# Altium footprint library Triac.PcbLib: 5 footprints
Each footprint in its own frame and in the unit in brackets; x right, y up, seen from the top. Pads: shape width x height; smd on the part's side, far side on the other; paste and mask are expansions set on the pad; w line width, h text height; cw(c..) or ccw(c..) is an arc to the next point about the centre after c.
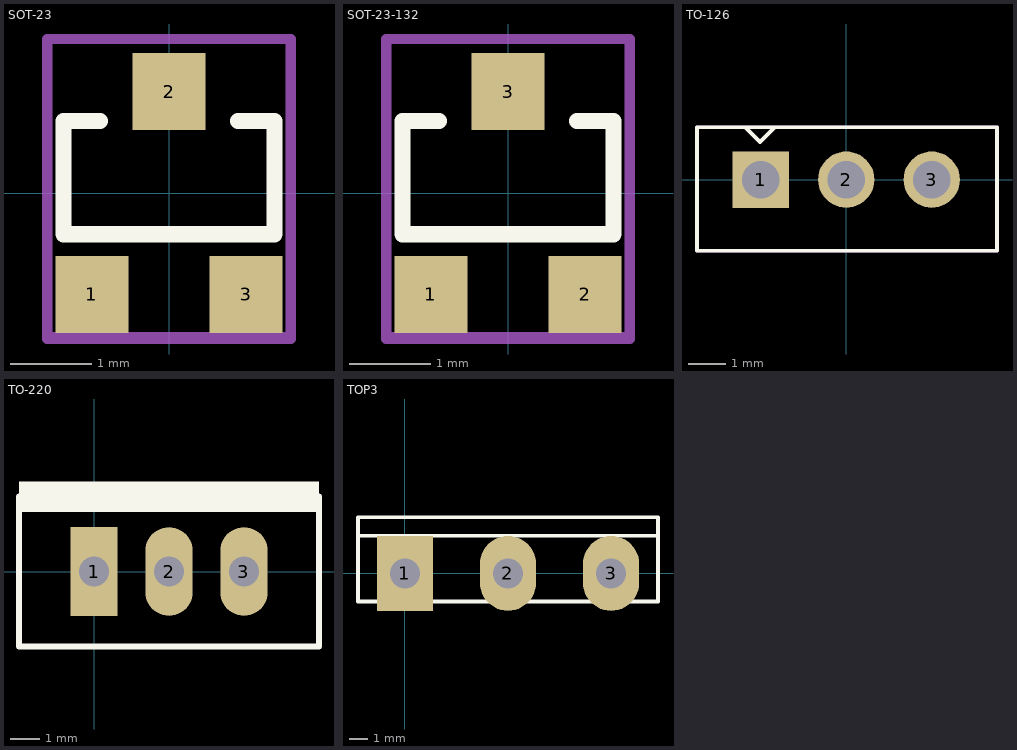
[diagram p0: the footprints below, top view; thin cyan lines are the x and y axes]

## SOT-23 [mm]
height 1.1
pads (3):
  rect 0.9x0.95 smd: 1(-0.95,-1.25) 2(0,1.25) 3(0.95,-1.25)
Top Overlay:
  lines w0.2: -0.85,0.889 -1.3,0.889 -1.3,-0.508 1.3,-0.508 1.3,0.889 0.85,0.889
Mechanical 13:
  lines w0.127: -1.5,-1.778 -1.5,1.9 1.5,1.9 1.5,-1.778 -1.5,-1.778
  text ".Designator" at 0.2,-1.6 h1
Mechanical 15:
  lines w0.127: -1.5,-1.8 -1.5,1.9 1.5,1.9 1.5,-1.8 -1.5,-1.8
  text ".Comment" at 0.254,-1.651 h1
3D body "SW3DPS-SOT-23-DEFAULT.STEP": height 1.06, standoff -0.04, extent -1.5,-1.123 1.5,1.377

## SOT-23-132 [mm]
height 1.1
pads (3):
  rect 0.9x0.95 smd: 1(-0.95,-1.25) 2(0.95,-1.25) 3(0,1.25)
Top Overlay:
  lines w0.2: -0.85,0.889 -1.3,0.889 -1.3,-0.508 1.3,-0.508 1.3,0.889 0.85,0.889
Mechanical 13:
  lines w0.127: -1.5,-1.778 -1.5,1.9 1.5,1.9 1.5,-1.778 -1.5,-1.778
  text ".Designator" at 0.254,-1.651 h1
Mechanical 15:
  lines w0.127: -1.5,-1.8 -1.5,1.9 1.5,1.9 1.5,-1.8 -1.5,-1.8
  text ".Comment" at 0.254,-1.651 h1
3D body "SW3DPS-SOT-23-DEFAULT.STEP": height 1.06, standoff -0.04, extent -1.5,-1.123 1.5,1.377

## TO-126 [mm]
pads (3):
  rect 1.5x1.5 hole 1: 1(-2.28,0)
  round 1.5 hole 1: 2(0,0) 3(2.28,0)
Top Overlay:
  lines w0.1: -2.7,1.4 -2.3,1 -1.9,1.4 ; -2.3,0 -2.28,0 ; -3.98,-1.9 -3.98,1.4 4.02,1.4 4.02,-1.9 -3.98,-1.9
Mechanical 13:
  lines w0.1: -3.98,-1.9 4.02,-1.9 4.02,1.4 -3.98,1.4 -3.98,-1.9
  text ".Designator" at -1.2,-0.7 h2.54
Mechanical 15:
  lines w0.1: -3.98,-1.9 4.02,-1.9 4.02,1.4 -3.98,1.4 -3.98,-1.9
  text ".Comment" at -1.2,-0.7 h2.54
3D body "TRANTO-126.STEP": height 13.94, standoff -13.86, extent -3.994,-1.885 4.006,1.365

## TO-220 [mm]
pads (3):
  rect 1.6x3 hole 1: 1(0,0)
  oval 1.6x3 hole 1: 2(2.54,0) 3(5.08,0)
Top Overlay:
  region: 7.62,3.048 -2.54,3.048 -2.54,2.032 7.62,2.032
  lines w0.2: -2.54,2.54 -2.54,-2.54 7.62,-2.54 7.62,2.54
3D body "3D_PCB1_2025-06.step": height 19.1, standoff -2.9, extent -2.46,-1.913 7.54,2.667

## TOP3 [mm]
pads (3):
  rect 3x4 hole 1.6: 1(0,0)
  oval 3x4 hole 1.6: 2(5.5,0) 3(11,0)
Top Overlay:
  lines w0.2: -2.5,2 13.5,2 ; -2.5,-1.5 12.5,-1.5 13.5,-1.5 13.5,3 -2.5,3 -2.5,-1.5
3D body "triac.step": height 25.25, standoff -3.4, extent -2.138,-1.593 13.162,2.918